# Altium schematic symbol library HEADER_1x2.Schlib: 1 symbol
Pins are listed as number, name and electrical type; pins without a type are passive.

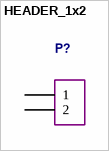
[diagram p0: symbol HEADER_1x2]

## HEADER_1x2
designator P?  (value not drawn)
Header, 2-Pin
pins: 1, 2
1 alternate drawing of the same symbol